# Altium schematic symbol library FFC2B27-30-G.Schlib: 1 symbol
Pins are listed as number, name and electrical type; pins without a type are passive.

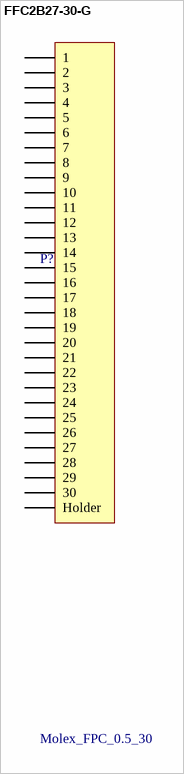
[diagram p0: symbol FFC2B27-30-G]

## FFC2B27-30-G
designator P?, comment Molex_FPC_0.5_30
0.5mm Pitch, 30 Pin Right GCT FPC Connector
pins: 1, 2, 3, 4, 5, 6, 7, 8, 9, 10, 11, 12, 13, 14, 15, 16, 17, 18, 19, 20, 21, 22, 23, 24, 25, 26, 27, 28, 29, 30, 31 Holder